# Altium footprint library ebf_f407 motor dev board_PCB封装_AD格式.PcbLib: 52 footprints (part 4 of 4)
Each footprint in its own frame and in the unit in brackets; x right, y up, seen from the top. Pads: shape width x height; smd on the part's side, far side on the other; paste and mask are expansions set on the pad; w line width, h text height; cw(c..) or ccw(c..) is an arc to the next point about the centre after c.
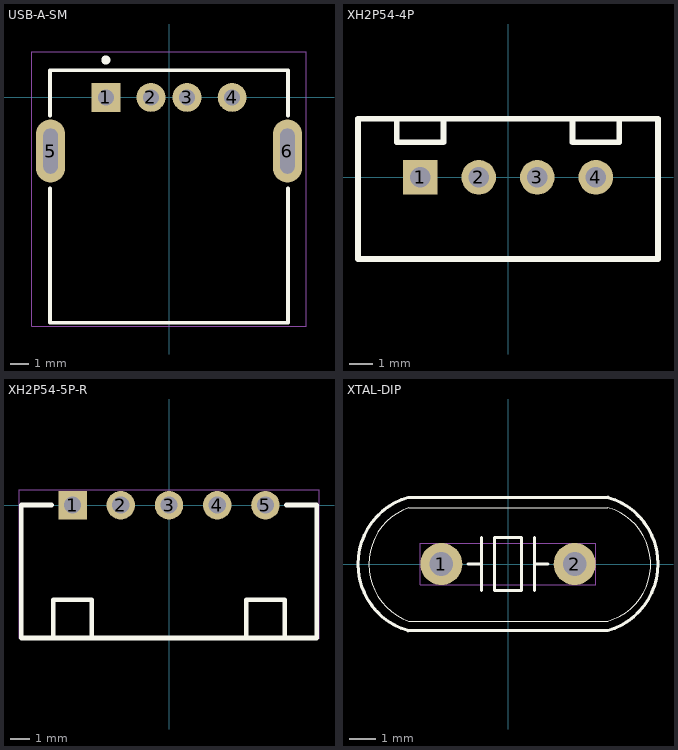
[diagram p3: the footprints below, top view; thin cyan lines are the x and y axes]

## USB-A-SM [mil]
pads (6):
  rect 62.99x62.99 / inner round 62.99 / far side rect 62.99x62.99 hole 35.43 mask+2: 1(-137.8,0)
  round 62.99 hole 35.43 mask+2: 2(-39.37,0) 3(39.37,0) 4(137.8,0)
  oval 62.99x137.8 hole 31.5 slot 98.43 at 90 deg mask+1.97: 5(-258.67,-117.09) 6(258.67,-117.09)
Top Overlay:
  circle w9.84: c-137.8,81.69 r4.93
  lines w7.87: -259.85,-198.11 -259.85,-492.13 259.85,-492.13 259.85,-198.11 ; -259.85,-40 -259.85,59.06 259.85,59.06 259.85,-40
Top Assembly:
  text "J16" at -52.14,-25 h50
Mechanical 20:
  lines w1: -300,-500 -300,100 300,100 300,-500 -300,-500

## XH2P54-4P [mil]
pads (4):
  rect 59.06x59.06 / inner round 59.06 / far side rect 59.06x59.06 hole 35.43 mask+1.97: 1(-150,0)
  round 59.06 hole 35.43 mask+1.97: 2(-50,0) 3(50,0) 4(150,0)
Top Overlay:
  lines w10: -256.3,-139.37 -256.3,100 256.3,100 256.3,-139.37 -256.3,-139.37 ; -190,60 -190,100 -110,100 -110,60 -190,60 ; 110,60 110,100 190,100 190,60 110,60
Top Assembly:
  text "J24" at -58.44,-25 h50
Mechanical 20:
  lines w1: -255,-140 -255,100 255,100 255,-140 -255,-140

## XH2P54-5P-R [mil]
pads (5):
  rect 59.06x59.06 / inner round 59.06 / far side rect 59.06x59.06 hole 35.43 mask+1.97: 1(-200,0)
  round 59.06 hole 35.43 mask+1.97: 2(-100,0) 3(0,0) 4(100,0) 5(200,0)
Top Overlay:
  lines w10: -243.31,0 -306.3,0 -306.3,-275.59 306.3,-275.59 306.3,0 243.31,0 ; -240,-275.59 -240,-196.22 -160,-196.22 -160,-275.59 -240,-275.59 ; 160,-275.59 160,-196.22 240,-196.22 240,-275.59 160,-275.59
Top Assembly:
  text "J17" at 53.33,25 h50
Mechanical 20:
  lines w1: -311.02,-275.59 -311.02,31.5 311.02,31.5 311.02,-275.59 -311.02,-275.59

## XTAL-DIP [mil]
pads (2):
  round 62.99 hole 35.43 mask+2: 1(-100,0) 2(100,0)
Top Overlay:
  lines w1: 149.45,-85.69 ccw(c125.85,-0.59) 149.6,84.47 ; 149.53,-85.67 -148.7,-85.67 cw(c-118.91,-0.59) -148.7,84.49 149.53,84.49
  lines w4.72: -150.08,99.98 ccw(c-120.85,0) -149.91,-100.03 ; -150,-100 150,-100 ; -150,100 150,100 ; -60,0 -40,0 ; -40,-40 -40,40 ; 40,-40 40,40 ; 40,0 60,0 ; 149.91,100.03 cw(c120.85,0) 150.08,-99.98 ; -20,-40 20,-40 20,40 -20,40 -20,-40
Top Assembly:
  text "Y3" at 38.93,25 h50
Mechanical 20:
  lines w1: -131.5,-31.5 131.5,-31.5 131.5,31.5 -131.5,31.5 -131.5,-31.5